# Altium integrated library Linear Technology PMIC-Switching Reg LT1074-LT8705.IntLib: 2252 symbols (part 69 of 124)
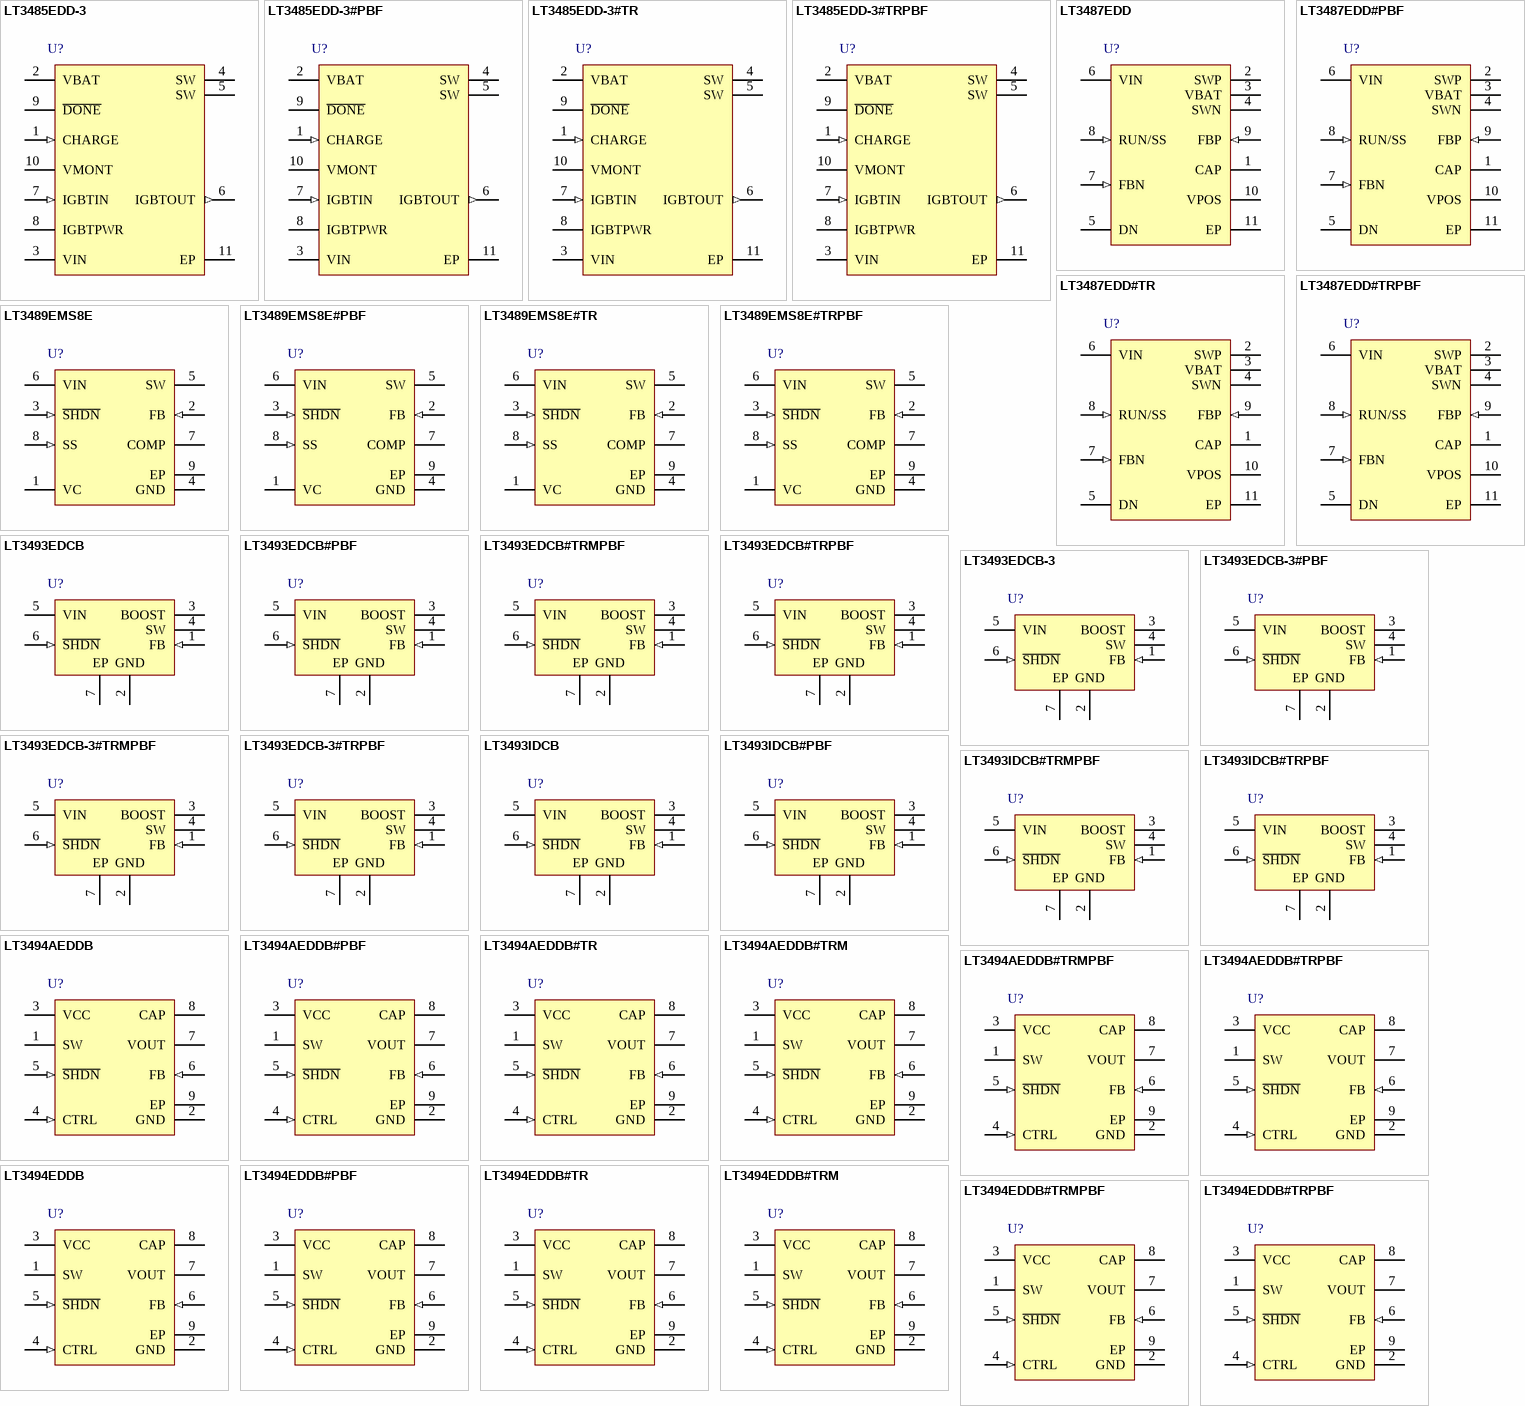
[diagram p139: symbols LT3485EDD-3 to LT3494EDDB#TRPBF]

## LT3487EDD#TRPBF
designator U?
Boost and Inverting Switching Regulator for CCD Bias, 10-pin SON (DD-10), -40 to 85 degC, Pb-Free, Tape and Reel; Manufacturer: Linear Technology; PartNumber: LT3487EDD#TRPBF; Number of Outputs: 2; PackageReference: DD-10; PackageDescription: 10-Pin Plastic DFN, Body 3 x 3 mm, Pitch 0.5 mm; Supplier 1: Digi-Key; Supplier Part Number 1: LT3487EDD#TRPBF-ND; RoHS: TRUE
footprint LT-DD-10_V (SON, 10-Leads, Body 3x3mm, Pitch 0.5mm, Thermal Pad 2.38x1.65mm)
pins: 1 CAP "Disconnect-PNP Emitter and Positive Schottky Cathode. Acts as an intermediate positive (boost) output. Connect boost output capacitor to this pin.", 2 SWP "Switch Pin and Schottky Anode for Positive Channel. Connect boost inductor to this pin.", 3 VBAT (power) "Battery Voltage. Connect this pin to the supply voltage for the boost inductor. The disconnect drive current is returned to this pin. The disconnect operates until CAP falls to 1.2V above VBAT.", 4 SWN "Switch Pin for Negative (Inverter) Channel. Connect inverter input inductor and flying capacitor here.", 5 DN "Anode of Internal Schottky for Inverter. Connect inverter output inductor and flying capacitor here.", 6 VIN (power) "Input Supply Pin. VIN is used to power the control circuitry of the LT3487. This pin must be locally bypassed with an X5R or X7R type ceramic capacitor", 7 FBN (in) "Feedback Pin for Inverter. Connect feedback resistor R2 from this pin to VNEG.", 8 RUN/SS (in) "Run/Soft-Start Pin. Connect to an opendrain transistor. The transistor must sink 1.4uA from RUN/SS. Pull RUN/SS below 100mV to shut down the chip. Connect a capacitor from RUN/SS to ground to program soft-start functionality.(See Datasheet)", 9 FBP (in) "Feedback Pin for Boost. Connect boost feedback resistor R1 from FBP to CAP.", 10 VPOS (power) "Output Pin for Boost Channel. VPOS is the collector of the output disconnect PNP. Connect the boost load to VPOS. Connect capacitor C5 between CAP and VPOS for stability.", 11 EP (power) "GND. Tie directly to ground plane through multiple vias under the package for optimum thermal performance."

## LT3489EMS8E
designator U?
2 MHz Boost DC/DC Converter with 2.5 A Switch and Soft-Start, 8-pin SOP (MS8E-8), -40 to 85 degC; Manufacturer: Linear Technology; PartNumber: LT3489EMS8E; Number of Outputs: 1; PackageReference: MS8E-8; PackageDescription: 8-Pin Plastic MSOP, Exposed Die Pad, Body 3 x 3 mm, Pitch 0.65 mm; RoHS: FALSE
footprint LT-MS8E-8-2060X1830TP_N (SOP, 8-Leads, Body 3.1x3.1mm, Pitch 0.65mm, Thermal Pad 2.162x1.932mm, IPC Medium Density)
footprint LT-MS8E-8-2060X1830TP_L (SOP, 8-Leads, Body 3.1x3.1mm, Pitch 0.65mm, Thermal Pad 2.162x1.932mm, IPC High Density)
footprint LT-MS8E-8-2060X1830TP_M (SOP, 8-Leads, Body 3.1x3.1mm, Pitch 0.65mm, Thermal Pad 2.162x1.932mm, IPC Low Density)
pins: 1 VC "Error Amplifer Output Pin. Tie external compensation network to this pin, or use the internal compensation  network by shorting the VC pin to the COMP pin.", 2 FB (in) "Feedback Pin.", 3 ~{SHDN} (in) "Shutdown Pin. Ground to shut down. Do not foat this pin.", 4 GND (power) "Ground. Tie directly to local ground plane.", 5 SW (power) "Switch Pin. This is the collector of the internal  NPN power switch. Minimize the metal trace area connected  to this pin to minimize EMI.", 6 VIN (power) "Input Supply Pin. Must be locally bypassed.", 7 COMP "Internal Compensation Pin. Provides an internal compensation network. Tie directly to the VC pin for internal compensation. Tie to GND if not in use.", 8 SS (in) "Soft-Start Pin. Place a soft-start capacitor here.", 9 EP (power) "Ground."

## LT3489EMS8E#PBF
designator U?
2 MHz Boost DC/DC Converter with 2.5 A Switch and Soft-Start, 8-pin SOP (MS8E-8), -40 to 85 degC, Pb-Free; Manufacturer: Linear Technology; PartNumber: LT3489EMS8E#PBF; Number of Outputs: 1; PackageReference: MS8E-8; PackageDescription: 8-Pin Plastic MSOP, Exposed Die Pad, Body 3 x 3 mm, Pitch 0.65 mm; Supplier 1: Digi-Key; Supplier Part Number 1: LT3489EMS8E#PBF-ND; RoHS: TRUE
footprint LT-MS8E-8-2060X1830TP_N (SOP, 8-Leads, Body 3.1x3.1mm, Pitch 0.65mm, Thermal Pad 2.162x1.932mm, IPC Medium Density)
footprint LT-MS8E-8-2060X1830TP_L (SOP, 8-Leads, Body 3.1x3.1mm, Pitch 0.65mm, Thermal Pad 2.162x1.932mm, IPC High Density)
footprint LT-MS8E-8-2060X1830TP_M (SOP, 8-Leads, Body 3.1x3.1mm, Pitch 0.65mm, Thermal Pad 2.162x1.932mm, IPC Low Density)
pins: 1 VC "Error Amplifer Output Pin. Tie external compensation network to this pin, or use the internal compensation  network by shorting the VC pin to the COMP pin.", 2 FB (in) "Feedback Pin.", 3 ~{SHDN} (in) "Shutdown Pin. Ground to shut down. Do not foat this pin.", 4 GND (power) "Ground. Tie directly to local ground plane.", 5 SW (power) "Switch Pin. This is the collector of the internal  NPN power switch. Minimize the metal trace area connected  to this pin to minimize EMI.", 6 VIN (power) "Input Supply Pin. Must be locally bypassed.", 7 COMP "Internal Compensation Pin. Provides an internal compensation network. Tie directly to the VC pin for internal compensation. Tie to GND if not in use.", 8 SS (in) "Soft-Start Pin. Place a soft-start capacitor here.", 9 EP (power) "Ground."

## LT3489EMS8E#TR
designator U?
2 MHz Boost DC/DC Converter with 2.5 A Switch and Soft-Start, 8-pin SOP (MS8E-8), -40 to 85 degC, Tape and Reel; Manufacturer: Linear Technology; PartNumber: LT3489EMS8E#TR; Number of Outputs: 1; PackageReference: MS8E-8; PackageDescription: 8-Pin Plastic MSOP, Exposed Die Pad, Body 3 x 3 mm, Pitch 0.65 mm; RoHS: FALSE
footprint LT-MS8E-8-2060X1830TP_N (SOP, 8-Leads, Body 3.1x3.1mm, Pitch 0.65mm, Thermal Pad 2.162x1.932mm, IPC Medium Density)
footprint LT-MS8E-8-2060X1830TP_L (SOP, 8-Leads, Body 3.1x3.1mm, Pitch 0.65mm, Thermal Pad 2.162x1.932mm, IPC High Density)
footprint LT-MS8E-8-2060X1830TP_M (SOP, 8-Leads, Body 3.1x3.1mm, Pitch 0.65mm, Thermal Pad 2.162x1.932mm, IPC Low Density)
pins: 1 VC "Error Amplifer Output Pin. Tie external compensation network to this pin, or use the internal compensation  network by shorting the VC pin to the COMP pin.", 2 FB (in) "Feedback Pin.", 3 ~{SHDN} (in) "Shutdown Pin. Ground to shut down. Do not foat this pin.", 4 GND (power) "Ground. Tie directly to local ground plane.", 5 SW (power) "Switch Pin. This is the collector of the internal  NPN power switch. Minimize the metal trace area connected  to this pin to minimize EMI.", 6 VIN (power) "Input Supply Pin. Must be locally bypassed.", 7 COMP "Internal Compensation Pin. Provides an internal compensation network. Tie directly to the VC pin for internal compensation. Tie to GND if not in use.", 8 SS (in) "Soft-Start Pin. Place a soft-start capacitor here.", 9 EP (power) "Ground."

## LT3489EMS8E#TRPBF
designator U?
2 MHz Boost DC/DC Converter with 2.5 A Switch and Soft-Start, 8-pin SOP (MS8E-8), -40 to 85 degC, Pb-Free, Tape and Reel; Manufacturer: Linear Technology; PartNumber: LT3489EMS8E#TRPBF; Number of Outputs: 1; PackageReference: MS8E-8; PackageDescription: 8-Pin Plastic MSOP, Exposed Die Pad, Body 3 x 3 mm, Pitch 0.65 mm; Supplier 1: Digi-Key; Supplier Part Number 1: LT3489EMS8E#TRPBF-ND; RoHS: TRUE
footprint LT-MS8E-8-2060X1830TP_N (SOP, 8-Leads, Body 3.1x3.1mm, Pitch 0.65mm, Thermal Pad 2.162x1.932mm, IPC Medium Density)
footprint LT-MS8E-8-2060X1830TP_L (SOP, 8-Leads, Body 3.1x3.1mm, Pitch 0.65mm, Thermal Pad 2.162x1.932mm, IPC High Density)
footprint LT-MS8E-8-2060X1830TP_M (SOP, 8-Leads, Body 3.1x3.1mm, Pitch 0.65mm, Thermal Pad 2.162x1.932mm, IPC Low Density)
pins: 1 VC "Error Amplifer Output Pin. Tie external compensation network to this pin, or use the internal compensation  network by shorting the VC pin to the COMP pin.", 2 FB (in) "Feedback Pin.", 3 ~{SHDN} (in) "Shutdown Pin. Ground to shut down. Do not foat this pin.", 4 GND (power) "Ground. Tie directly to local ground plane.", 5 SW (power) "Switch Pin. This is the collector of the internal  NPN power switch. Minimize the metal trace area connected  to this pin to minimize EMI.", 6 VIN (power) "Input Supply Pin. Must be locally bypassed.", 7 COMP "Internal Compensation Pin. Provides an internal compensation network. Tie directly to the VC pin for internal compensation. Tie to GND if not in use.", 8 SS (in) "Soft-Start Pin. Place a soft-start capacitor here.", 9 EP (power) "Ground."

## LT3493EDCB
designator U?
1.2 A, 750 kHz Step-Down Switching Regulator, 6-pin SON (DCB-6), -40 to 85 degC; Manufacturer: Linear Technology; PartNumber: LT3493EDCB; Number of Outputs: 1; PackageReference: DCB-6; PackageDescription: 6-Pin Plastic DFN, Body 2 x 3 mm, Pitch 0.5 mm; RoHS: FALSE
footprint LT-DCB-6_V (SON, 6-Leads, Body 3x2mm, Pitch 0.5mm, Thermal Pad 1.65x1.35mm)
pins: 1 FB (in) "The LT3493-3 regulates its feedback pin to 780mV. Connect the feedback resistor divider tap to this pin. Set the output voltage according to VOUT = 0.78V x (1 + R1/R2). A good value for R2 is 10k.", 2 GND (power) "Tie the GND pin to a local ground plane below the LT3493-3 and the circuit components. Return the feedback divider to this pin.", 3 BOOST "The BOOST pin is used to provide a drive voltage, higher than the input voltage, to the internal bipolar NPN power switch.", 4 SW (power) "The SW pin is the output of the internal power switch. Connect this pin to the inductor, catch diode and boost capacitor.", 5 VIN (power) "The VIN pin supplies current to the LT3493-3's internal regulator and to the internal power switch. This pin must be locally bypassed.", 6 ~{SHDN} (in) "The S\H\D\N\ pin is used to put the LT3493-3 in shutdown mode. Tie to ground to shut down the LT3493-3. Tie to 2.3V or more for normal operation. If the shutdown feature is not used, tie this pin to the VIN pin. S\H\D\N\ (See Datasheet)", 7 EP (power) "The Exposed Pad must be soldered to the PCB and electrically connected to ground. Use a large ground plane and thermal vias to optimize thermal performance."

## LT3493EDCB#PBF
designator U?
1.2 A, 750 kHz Step-Down Switching Regulator, 6-pin SON (DCB-6), -40 to 85 degC, Pb-Free; Manufacturer: Linear Technology; PartNumber: LT3493EDCB#PBF; Number of Outputs: 1; PackageReference: DCB-6; PackageDescription: 6-Pin Plastic DFN, Body 2 x 3 mm, Pitch 0.5 mm; Supplier 1: Farnell; Supplier Part Number 1: 1531511; RoHS: TRUE
footprint LT-DCB-6_V (SON, 6-Leads, Body 3x2mm, Pitch 0.5mm, Thermal Pad 1.65x1.35mm)
pins: 1 FB (in) "The LT3493-3 regulates its feedback pin to 780mV. Connect the feedback resistor divider tap to this pin. Set the output voltage according to VOUT = 0.78V x (1 + R1/R2). A good value for R2 is 10k.", 2 GND (power) "Tie the GND pin to a local ground plane below the LT3493-3 and the circuit components. Return the feedback divider to this pin.", 3 BOOST "The BOOST pin is used to provide a drive voltage, higher than the input voltage, to the internal bipolar NPN power switch.", 4 SW (power) "The SW pin is the output of the internal power switch. Connect this pin to the inductor, catch diode and boost capacitor.", 5 VIN (power) "The VIN pin supplies current to the LT3493-3's internal regulator and to the internal power switch. This pin must be locally bypassed.", 6 ~{SHDN} (in) "The S\H\D\N\ pin is used to put the LT3493-3 in shutdown mode. Tie to ground to shut down the LT3493-3. Tie to 2.3V or more for normal operation. If the shutdown feature is not used, tie this pin to the VIN pin. S\H\D\N\ (See Datasheet)", 7 EP (power) "The Exposed Pad must be soldered to the PCB and electrically connected to ground. Use a large ground plane and thermal vias to optimize thermal performance."

## LT3493EDCB#TRMPBF
designator U?
1.2 A, 750 kHz Step-Down Switching Regulator, 6-pin SON (DCB-6), -40 to 85 degC, Pb-Free, Mini Tape and Reel; Manufacturer: Linear Technology; PartNumber: LT3493EDCB#TRMPBF; Number of Outputs: 1; PackageReference: DCB-6; PackageDescription: 6-Pin Plastic DFN, Body 2 x 3 mm, Pitch 0.5 mm; Supplier 1: Digi-Key; Supplier Part Number 1: LT3493EDCB#TRMPBFTR-ND; RoHS: TRUE
footprint LT-DCB-6_V (SON, 6-Leads, Body 3x2mm, Pitch 0.5mm, Thermal Pad 1.65x1.35mm)
pins: 1 FB (in) "The LT3493-3 regulates its feedback pin to 780mV. Connect the feedback resistor divider tap to this pin. Set the output voltage according to VOUT = 0.78V x (1 + R1/R2). A good value for R2 is 10k.", 2 GND (power) "Tie the GND pin to a local ground plane below the LT3493-3 and the circuit components. Return the feedback divider to this pin.", 3 BOOST "The BOOST pin is used to provide a drive voltage, higher than the input voltage, to the internal bipolar NPN power switch.", 4 SW (power) "The SW pin is the output of the internal power switch. Connect this pin to the inductor, catch diode and boost capacitor.", 5 VIN (power) "The VIN pin supplies current to the LT3493-3's internal regulator and to the internal power switch. This pin must be locally bypassed.", 6 ~{SHDN} (in) "The S\H\D\N\ pin is used to put the LT3493-3 in shutdown mode. Tie to ground to shut down the LT3493-3. Tie to 2.3V or more for normal operation. If the shutdown feature is not used, tie this pin to the VIN pin. S\H\D\N\ (See Datasheet)", 7 EP (power) "The Exposed Pad must be soldered to the PCB and electrically connected to ground. Use a large ground plane and thermal vias to optimize thermal performance."

## LT3493EDCB#TRPBF
designator U?
1.2 A, 750 kHz Step-Down Switching Regulator, 6-pin SON (DCB-6), -40 to 85 degC, Pb-Free, Tape and Reel; Manufacturer: Linear Technology; PartNumber: LT3493EDCB#TRPBF; Number of Outputs: 1; PackageReference: DCB-6; PackageDescription: 6-Pin Plastic DFN, Body 2 x 3 mm, Pitch 0.5 mm; Supplier 1: Digi-Key; Supplier Part Number 1: LT3493EDCB#TRPBF-ND; RoHS: TRUE
footprint LT-DCB-6_V (SON, 6-Leads, Body 3x2mm, Pitch 0.5mm, Thermal Pad 1.65x1.35mm)
pins: 1 FB (in) "The LT3493-3 regulates its feedback pin to 780mV. Connect the feedback resistor divider tap to this pin. Set the output voltage according to VOUT = 0.78V x (1 + R1/R2). A good value for R2 is 10k.", 2 GND (power) "Tie the GND pin to a local ground plane below the LT3493-3 and the circuit components. Return the feedback divider to this pin.", 3 BOOST "The BOOST pin is used to provide a drive voltage, higher than the input voltage, to the internal bipolar NPN power switch.", 4 SW (power) "The SW pin is the output of the internal power switch. Connect this pin to the inductor, catch diode and boost capacitor.", 5 VIN (power) "The VIN pin supplies current to the LT3493-3's internal regulator and to the internal power switch. This pin must be locally bypassed.", 6 ~{SHDN} (in) "The S\H\D\N\ pin is used to put the LT3493-3 in shutdown mode. Tie to ground to shut down the LT3493-3. Tie to 2.3V or more for normal operation. If the shutdown feature is not used, tie this pin to the VIN pin. S\H\D\N\ (See Datasheet)", 7 EP (power) "The Exposed Pad must be soldered to the PCB and electrically connected to ground. Use a large ground plane and thermal vias to optimize thermal performance."

## LT3493EDCB-3
designator U?
1.2 A, 750 kHz Step-Down Switching Regulator, 6-pin SON (DCB-6), -40 to 85 degC; Manufacturer: Linear Technology; PartNumber: LT3493EDCB-3; Number of Outputs: 1; PackageReference: DCB-6; PackageDescription: 6-Pin Plastic DFN, Body 2 x 3 mm, Pitch 0.5 mm; RoHS: FALSE
footprint LT-DCB-6_V (SON, 6-Leads, Body 3x2mm, Pitch 0.5mm, Thermal Pad 1.65x1.35mm)
pins: 1 FB (in) "The LT3493-3 regulates its feedback pin to 780mV. Connect the feedback resistor divider tap to this pin. Set the output voltage according to VOUT = 0.78V x (1 + R1/R2). A good value for R2 is 10k.", 2 GND (power) "Tie the GND pin to a local ground plane below the LT3493-3 and the circuit components. Return the feedback divider to this pin.", 3 BOOST "The BOOST pin is used to provide a drive voltage, higher than the input voltage, to the internal bipolar NPN power switch.", 4 SW (power) "The SW pin is the output of the internal power switch. Connect this pin to the inductor, catch diode and boost capacitor.", 5 VIN (power) "The VIN pin supplies current to the LT3493-3's internal regulator and to the internal power switch. This pin must be locally bypassed.", 6 ~{SHDN} (in) "The S\H\D\N\ pin is used to put the LT3493-3 in shutdown mode. Tie to ground to shut down the LT3493-3. Tie to 2.3V or more for normal operation. If the shutdown feature is not used, tie this pin to the VIN pin. S\H\D\N\ (See Datasheet)", 7 EP (power) "The Exposed Pad must be soldered to the PCB and electrically connected to ground. Use a large ground plane and thermal vias to optimize thermal performance."

## LT3493EDCB-3#PBF
designator U?
1.2 A, 750 kHz Step-Down Switching Regulator, 6-pin SON (DCB-6), -40 to 85 degC, Pb-Free; Manufacturer: Linear Technology; PartNumber: LT3493EDCB-3#PBF; Number of Outputs: 1; PackageReference: DCB-6; PackageDescription: 6-Pin Plastic DFN, Body 2 x 3 mm, Pitch 0.5 mm; RoHS: TRUE
footprint LT-DCB-6_V (SON, 6-Leads, Body 3x2mm, Pitch 0.5mm, Thermal Pad 1.65x1.35mm)
pins: 1 FB (in) "The LT3493-3 regulates its feedback pin to 780mV. Connect the feedback resistor divider tap to this pin. Set the output voltage according to VOUT = 0.78V x (1 + R1/R2). A good value for R2 is 10k.", 2 GND (power) "Tie the GND pin to a local ground plane below the LT3493-3 and the circuit components. Return the feedback divider to this pin.", 3 BOOST "The BOOST pin is used to provide a drive voltage, higher than the input voltage, to the internal bipolar NPN power switch.", 4 SW (power) "The SW pin is the output of the internal power switch. Connect this pin to the inductor, catch diode and boost capacitor.", 5 VIN (power) "The VIN pin supplies current to the LT3493-3's internal regulator and to the internal power switch. This pin must be locally bypassed.", 6 ~{SHDN} (in) "The S\H\D\N\ pin is used to put the LT3493-3 in shutdown mode. Tie to ground to shut down the LT3493-3. Tie to 2.3V or more for normal operation. If the shutdown feature is not used, tie this pin to the VIN pin. S\H\D\N\ (See Datasheet)", 7 EP (power) "The Exposed Pad must be soldered to the PCB and electrically connected to ground. Use a large ground plane and thermal vias to optimize thermal performance."

## LT3493EDCB-3#TRMPBF
designator U?
1.2 A, 750 kHz Step-Down Switching Regulator, 6-pin SON (DCB-6), -40 to 85 degC, Pb-Free, Mini Tape and Reel; Manufacturer: Linear Technology; PartNumber: LT3493EDCB-3#TRMPBF; Number of Outputs: 1; PackageReference: DCB-6; PackageDescription: 6-Pin Plastic DFN, Body 2 x 3 mm, Pitch 0.5 mm; Supplier 1: Digi-Key; Supplier Part Number 1: LT3493EDCB-3#TRMPBF-ND; RoHS: TRUE
footprint LT-DCB-6_V (SON, 6-Leads, Body 3x2mm, Pitch 0.5mm, Thermal Pad 1.65x1.35mm)
pins: 1 FB (in) "The LT3493-3 regulates its feedback pin to 780mV. Connect the feedback resistor divider tap to this pin. Set the output voltage according to VOUT = 0.78V x (1 + R1/R2). A good value for R2 is 10k.", 2 GND (power) "Tie the GND pin to a local ground plane below the LT3493-3 and the circuit components. Return the feedback divider to this pin.", 3 BOOST "The BOOST pin is used to provide a drive voltage, higher than the input voltage, to the internal bipolar NPN power switch.", 4 SW (power) "The SW pin is the output of the internal power switch. Connect this pin to the inductor, catch diode and boost capacitor.", 5 VIN (power) "The VIN pin supplies current to the LT3493-3's internal regulator and to the internal power switch. This pin must be locally bypassed.", 6 ~{SHDN} (in) "The S\H\D\N\ pin is used to put the LT3493-3 in shutdown mode. Tie to ground to shut down the LT3493-3. Tie to 2.3V or more for normal operation. If the shutdown feature is not used, tie this pin to the VIN pin. S\H\D\N\ (See Datasheet)", 7 EP (power) "The Exposed Pad must be soldered to the PCB and electrically connected to ground. Use a large ground plane and thermal vias to optimize thermal performance."

## LT3493EDCB-3#TRPBF
designator U?
1.2 A, 750 kHz Step-Down Switching Regulator, 6-pin SON (DCB-6), -40 to 85 degC, Pb-Free, Tape and Reel; Manufacturer: Linear Technology; PartNumber: LT3493EDCB-3#TRPBF; Number of Outputs: 1; PackageReference: DCB-6; PackageDescription: 6-Pin Plastic DFN, Body 2 x 3 mm, Pitch 0.5 mm; Supplier 1: Digi-Key; Supplier Part Number 1: LT3493EDCB-3#TRPBF-ND; RoHS: TRUE
footprint LT-DCB-6_V (SON, 6-Leads, Body 3x2mm, Pitch 0.5mm, Thermal Pad 1.65x1.35mm)
pins: 1 FB (in) "The LT3493-3 regulates its feedback pin to 780mV. Connect the feedback resistor divider tap to this pin. Set the output voltage according to VOUT = 0.78V x (1 + R1/R2). A good value for R2 is 10k.", 2 GND (power) "Tie the GND pin to a local ground plane below the LT3493-3 and the circuit components. Return the feedback divider to this pin.", 3 BOOST "The BOOST pin is used to provide a drive voltage, higher than the input voltage, to the internal bipolar NPN power switch.", 4 SW (power) "The SW pin is the output of the internal power switch. Connect this pin to the inductor, catch diode and boost capacitor.", 5 VIN (power) "The VIN pin supplies current to the LT3493-3's internal regulator and to the internal power switch. This pin must be locally bypassed.", 6 ~{SHDN} (in) "The S\H\D\N\ pin is used to put the LT3493-3 in shutdown mode. Tie to ground to shut down the LT3493-3. Tie to 2.3V or more for normal operation. If the shutdown feature is not used, tie this pin to the VIN pin. S\H\D\N\ (See Datasheet)", 7 EP (power) "The Exposed Pad must be soldered to the PCB and electrically connected to ground. Use a large ground plane and thermal vias to optimize thermal performance."

## LT3493IDCB
designator U?
1.2 A, 750 kHz Step-Down Switching Regulator, 6-pin SON (DCB-6), -40 to 125 degC; Manufacturer: Linear Technology; PartNumber: LT3493IDCB; Number of Outputs: 1; PackageReference: DCB-6; PackageDescription: 6-Pin Plastic DFN, Body 2 x 3 mm, Pitch 0.5 mm; Supplier 1: Newark; Supplier Part Number 1: 24W8908; RoHS: FALSE
footprint LT-DCB-6_V (SON, 6-Leads, Body 3x2mm, Pitch 0.5mm, Thermal Pad 1.65x1.35mm)
pins: 1 FB (in) "The LT3493-3 regulates its feedback pin to 780mV. Connect the feedback resistor divider tap to this pin. Set the output voltage according to VOUT = 0.78V x (1 + R1/R2). A good value for R2 is 10k.", 2 GND (power) "Tie the GND pin to a local ground plane below the LT3493-3 and the circuit components. Return the feedback divider to this pin.", 3 BOOST "The BOOST pin is used to provide a drive voltage, higher than the input voltage, to the internal bipolar NPN power switch.", 4 SW (power) "The SW pin is the output of the internal power switch. Connect this pin to the inductor, catch diode and boost capacitor.", 5 VIN (power) "The VIN pin supplies current to the LT3493-3's internal regulator and to the internal power switch. This pin must be locally bypassed.", 6 ~{SHDN} (in) "The S\H\D\N\ pin is used to put the LT3493-3 in shutdown mode. Tie to ground to shut down the LT3493-3. Tie to 2.3V or more for normal operation. If the shutdown feature is not used, tie this pin to the VIN pin. S\H\D\N\ (See Datasheet)", 7 EP (power) "The Exposed Pad must be soldered to the PCB and electrically connected to ground. Use a large ground plane and thermal vias to optimize thermal performance."

## LT3493IDCB#PBF
designator U?
1.2 A, 750 kHz Step-Down Switching Regulator, 6-pin SON (DCB-6), -40 to 125 degC, Pb-Free; Manufacturer: Linear Technology; PartNumber: LT3493IDCB#PBF; Number of Outputs: 1; PackageReference: DCB-6; PackageDescription: 6-Pin Plastic DFN, Body 2 x 3 mm, Pitch 0.5 mm; Supplier 1: Farnell; Supplier Part Number 1: 2294918; RoHS: TRUE
footprint LT-DCB-6_V (SON, 6-Leads, Body 3x2mm, Pitch 0.5mm, Thermal Pad 1.65x1.35mm)
pins: 1 FB (in) "The LT3493-3 regulates its feedback pin to 780mV. Connect the feedback resistor divider tap to this pin. Set the output voltage according to VOUT = 0.78V x (1 + R1/R2). A good value for R2 is 10k.", 2 GND (power) "Tie the GND pin to a local ground plane below the LT3493-3 and the circuit components. Return the feedback divider to this pin.", 3 BOOST "The BOOST pin is used to provide a drive voltage, higher than the input voltage, to the internal bipolar NPN power switch.", 4 SW (power) "The SW pin is the output of the internal power switch. Connect this pin to the inductor, catch diode and boost capacitor.", 5 VIN (power) "The VIN pin supplies current to the LT3493-3's internal regulator and to the internal power switch. This pin must be locally bypassed.", 6 ~{SHDN} (in) "The S\H\D\N\ pin is used to put the LT3493-3 in shutdown mode. Tie to ground to shut down the LT3493-3. Tie to 2.3V or more for normal operation. If the shutdown feature is not used, tie this pin to the VIN pin. S\H\D\N\ (See Datasheet)", 7 EP (power) "The Exposed Pad must be soldered to the PCB and electrically connected to ground. Use a large ground plane and thermal vias to optimize thermal performance."

## LT3493IDCB#TRMPBF
designator U?
1.2 A, 750 kHz Step-Down Switching Regulator, 6-pin SON (DCB-6), -40 to 125 degC, Pb-Free, Mini Tape and Reel; Manufacturer: Linear Technology; PartNumber: LT3493IDCB#TRMPBF; Number of Outputs: 1; PackageReference: DCB-6; PackageDescription: 6-Pin Plastic DFN, Body 2 x 3 mm, Pitch 0.5 mm; Supplier 1: Digi-Key; Supplier Part Number 1: LT3493IDCB#TRMPBF-ND; RoHS: TRUE
footprint LT-DCB-6_V (SON, 6-Leads, Body 3x2mm, Pitch 0.5mm, Thermal Pad 1.65x1.35mm)
pins: 1 FB (in) "The LT3493-3 regulates its feedback pin to 780mV. Connect the feedback resistor divider tap to this pin. Set the output voltage according to VOUT = 0.78V x (1 + R1/R2). A good value for R2 is 10k.", 2 GND (power) "Tie the GND pin to a local ground plane below the LT3493-3 and the circuit components. Return the feedback divider to this pin.", 3 BOOST "The BOOST pin is used to provide a drive voltage, higher than the input voltage, to the internal bipolar NPN power switch.", 4 SW (power) "The SW pin is the output of the internal power switch. Connect this pin to the inductor, catch diode and boost capacitor.", 5 VIN (power) "The VIN pin supplies current to the LT3493-3's internal regulator and to the internal power switch. This pin must be locally bypassed.", 6 ~{SHDN} (in) "The S\H\D\N\ pin is used to put the LT3493-3 in shutdown mode. Tie to ground to shut down the LT3493-3. Tie to 2.3V or more for normal operation. If the shutdown feature is not used, tie this pin to the VIN pin. S\H\D\N\ (See Datasheet)", 7 EP (power) "The Exposed Pad must be soldered to the PCB and electrically connected to ground. Use a large ground plane and thermal vias to optimize thermal performance."

## LT3493IDCB#TRPBF
designator U?
1.2 A, 750 kHz Step-Down Switching Regulator, 6-pin SON (DCB-6), -40 to 125 degC, Pb-Free, Tape and Reel; Manufacturer: Linear Technology; PartNumber: LT3493IDCB#TRPBF; Number of Outputs: 1; PackageReference: DCB-6; PackageDescription: 6-Pin Plastic DFN, Body 2 x 3 mm, Pitch 0.5 mm; Supplier 1: Digi-Key; Supplier Part Number 1: LT3493IDCB#TRPBF-ND; RoHS: TRUE
footprint LT-DCB-6_V (SON, 6-Leads, Body 3x2mm, Pitch 0.5mm, Thermal Pad 1.65x1.35mm)
pins: 1 FB (in) "The LT3493-3 regulates its feedback pin to 780mV. Connect the feedback resistor divider tap to this pin. Set the output voltage according to VOUT = 0.78V x (1 + R1/R2). A good value for R2 is 10k.", 2 GND (power) "Tie the GND pin to a local ground plane below the LT3493-3 and the circuit components. Return the feedback divider to this pin.", 3 BOOST "The BOOST pin is used to provide a drive voltage, higher than the input voltage, to the internal bipolar NPN power switch.", 4 SW (power) "The SW pin is the output of the internal power switch. Connect this pin to the inductor, catch diode and boost capacitor.", 5 VIN (power) "The VIN pin supplies current to the LT3493-3's internal regulator and to the internal power switch. This pin must be locally bypassed.", 6 ~{SHDN} (in) "The S\H\D\N\ pin is used to put the LT3493-3 in shutdown mode. Tie to ground to shut down the LT3493-3. Tie to 2.3V or more for normal operation. If the shutdown feature is not used, tie this pin to the VIN pin. S\H\D\N\ (See Datasheet)", 7 EP (power) "The Exposed Pad must be soldered to the PCB and electrically connected to ground. Use a large ground plane and thermal vias to optimize thermal performance."

## LT3494AEDDB
designator U?
Micropower Low Noise Boost Converter with Output Disconnect, 8-pin SON (DDB-8), -40 to 85 degC; Manufacturer: Linear Technology; PartNumber: LT3494AEDDB; Number of Outputs: 1; PackageReference: DDB-8; PackageDescription: 8-Pin Plastic DFN, Body 3 x 2 mm, Pitch 0.5 mm; RoHS: FALSE
footprint LT-DDB-8_V (SON, 8-Leads, Body 3x2mm, Pitch 0.5mm, Thermal Pad 2.2x0.61mm)
pins: 1 SW "Switch Pin. This is the collector of the internal NPN power switch. Minimize the metal trace area connected to this pin to minimize EMI.", 2 GND (power) "Ground. Tie directly to local ground plane.", 3 VCC (power) "Input Supply Pin. Must be locally bypassed.", 4 CTRL (in) "Dimming Pin. If not used, tie CTRL to 1.5V or higher. If in use, drive CTRL below 1.225V to override the internal reference. See Applications Information for more information.", 5 ~{SHDN} (in) "Shutdown Pin. Tie to 1.5V or more to enable device. Ground to shut down.", 6 FB (in) "Feedback Pin. Reference voltage is 1.225V. There is an internal 182k resistor from the FB pin to GND. To achieve the desired output voltage, choose R1 according to the following formula: R1=182 x (VOUT(MAX)/1.225-1) kohm", 7 VOUT (power) "Drain of Output Disconnect PMOS. Place a bypass capacitor from this pin to GND. See Applications Information.", 8 CAP "This is the cathode of the internal Schottky diode. Place a bypass capacitor from this pin to GND.", 9 EP (power) "Ground. This pin must be soldered to PCB."

## LT3494AEDDB#PBF
designator U?
Micropower Low Noise Boost Converter with Output Disconnect, 8-pin SON (DDB-8), -40 to 85 degC, Pb-Free; Manufacturer: Linear Technology; PartNumber: LT3494AEDDB#PBF; Number of Outputs: 1; PackageReference: DDB-8; PackageDescription: 8-Pin Plastic DFN, Body 3 x 2 mm, Pitch 0.5 mm; Supplier 1: Farnell; Supplier Part Number 1: 2294919; RoHS: TRUE
footprint LT-DDB-8_V (SON, 8-Leads, Body 3x2mm, Pitch 0.5mm, Thermal Pad 2.2x0.61mm)
pins: 1 SW "Switch Pin. This is the collector of the internal NPN power switch. Minimize the metal trace area connected to this pin to minimize EMI.", 2 GND (power) "Ground. Tie directly to local ground plane.", 3 VCC (power) "Input Supply Pin. Must be locally bypassed.", 4 CTRL (in) "Dimming Pin. If not used, tie CTRL to 1.5V or higher. If in use, drive CTRL below 1.225V to override the internal reference. See Applications Information for more information.", 5 ~{SHDN} (in) "Shutdown Pin. Tie to 1.5V or more to enable device. Ground to shut down.", 6 FB (in) "Feedback Pin. Reference voltage is 1.225V. There is an internal 182k resistor from the FB pin to GND. To achieve the desired output voltage, choose R1 according to the following formula: R1=182 x (VOUT(MAX)/1.225-1) kohm", 7 VOUT (power) "Drain of Output Disconnect PMOS. Place a bypass capacitor from this pin to GND. See Applications Information.", 8 CAP "This is the cathode of the internal Schottky diode. Place a bypass capacitor from this pin to GND.", 9 EP (power) "Ground. This pin must be soldered to PCB."

## LT3494AEDDB#TR
designator U?
Micropower Low Noise Boost Converter with Output Disconnect, 8-pin SON (DDB-8), -40 to 85 degC, Tape and Reel; Manufacturer: Linear Technology; PartNumber: LT3494AEDDB#TR; Number of Outputs: 1; PackageReference: DDB-8; PackageDescription: 8-Pin Plastic DFN, Body 3 x 2 mm, Pitch 0.5 mm; RoHS: FALSE
footprint LT-DDB-8_V (SON, 8-Leads, Body 3x2mm, Pitch 0.5mm, Thermal Pad 2.2x0.61mm)
pins: 1 SW "Switch Pin. This is the collector of the internal NPN power switch. Minimize the metal trace area connected to this pin to minimize EMI.", 2 GND (power) "Ground. Tie directly to local ground plane.", 3 VCC (power) "Input Supply Pin. Must be locally bypassed.", 4 CTRL (in) "Dimming Pin. If not used, tie CTRL to 1.5V or higher. If in use, drive CTRL below 1.225V to override the internal reference. See Applications Information for more information.", 5 ~{SHDN} (in) "Shutdown Pin. Tie to 1.5V or more to enable device. Ground to shut down.", 6 FB (in) "Feedback Pin. Reference voltage is 1.225V. There is an internal 182k resistor from the FB pin to GND. To achieve the desired output voltage, choose R1 according to the following formula: R1=182 x (VOUT(MAX)/1.225-1) kohm", 7 VOUT (power) "Drain of Output Disconnect PMOS. Place a bypass capacitor from this pin to GND. See Applications Information.", 8 CAP "This is the cathode of the internal Schottky diode. Place a bypass capacitor from this pin to GND.", 9 EP (power) "Ground. This pin must be soldered to PCB."

## LT3494AEDDB#TRM
designator U?
Micropower Low Noise Boost Converter with Output Disconnect, 8-pin SON (DDB-8), -40 to 85 degC, Mini Tape and Reel; Manufacturer: Linear Technology; PartNumber: LT3494AEDDB#TRM; Number of Outputs: 1; PackageReference: DDB-8; PackageDescription: 8-Pin Plastic DFN, Body 3 x 2 mm, Pitch 0.5 mm; RoHS: FALSE
footprint LT-DDB-8_V (SON, 8-Leads, Body 3x2mm, Pitch 0.5mm, Thermal Pad 2.2x0.61mm)
pins: 1 SW "Switch Pin. This is the collector of the internal NPN power switch. Minimize the metal trace area connected to this pin to minimize EMI.", 2 GND (power) "Ground. Tie directly to local ground plane.", 3 VCC (power) "Input Supply Pin. Must be locally bypassed.", 4 CTRL (in) "Dimming Pin. If not used, tie CTRL to 1.5V or higher. If in use, drive CTRL below 1.225V to override the internal reference. See Applications Information for more information.", 5 ~{SHDN} (in) "Shutdown Pin. Tie to 1.5V or more to enable device. Ground to shut down.", 6 FB (in) "Feedback Pin. Reference voltage is 1.225V. There is an internal 182k resistor from the FB pin to GND. To achieve the desired output voltage, choose R1 according to the following formula: R1=182 x (VOUT(MAX)/1.225-1) kohm", 7 VOUT (power) "Drain of Output Disconnect PMOS. Place a bypass capacitor from this pin to GND. See Applications Information.", 8 CAP "This is the cathode of the internal Schottky diode. Place a bypass capacitor from this pin to GND.", 9 EP (power) "Ground. This pin must be soldered to PCB."

## LT3494AEDDB#TRMPBF
designator U?
Micropower Low Noise Boost Converter with Output Disconnect, 8-pin SON (DDB-8), -40 to 85 degC, Pb-Free, Mini Tape and Reel; Manufacturer: Linear Technology; PartNumber: LT3494AEDDB#TRMPBF; Number of Outputs: 1; PackageReference: DDB-8; PackageDescription: 8-Pin Plastic DFN, Body 3 x 2 mm, Pitch 0.5 mm; Supplier 1: Digi-Key; Supplier Part Number 1: LT3494AEDDB#TRMPBFTR-ND; RoHS: TRUE
footprint LT-DDB-8_V (SON, 8-Leads, Body 3x2mm, Pitch 0.5mm, Thermal Pad 2.2x0.61mm)
pins: 1 SW "Switch Pin. This is the collector of the internal NPN power switch. Minimize the metal trace area connected to this pin to minimize EMI.", 2 GND (power) "Ground. Tie directly to local ground plane.", 3 VCC (power) "Input Supply Pin. Must be locally bypassed.", 4 CTRL (in) "Dimming Pin. If not used, tie CTRL to 1.5V or higher. If in use, drive CTRL below 1.225V to override the internal reference. See Applications Information for more information.", 5 ~{SHDN} (in) "Shutdown Pin. Tie to 1.5V or more to enable device. Ground to shut down.", 6 FB (in) "Feedback Pin. Reference voltage is 1.225V. There is an internal 182k resistor from the FB pin to GND. To achieve the desired output voltage, choose R1 according to the following formula: R1=182 x (VOUT(MAX)/1.225-1) kohm", 7 VOUT (power) "Drain of Output Disconnect PMOS. Place a bypass capacitor from this pin to GND. See Applications Information.", 8 CAP "This is the cathode of the internal Schottky diode. Place a bypass capacitor from this pin to GND.", 9 EP (power) "Ground. This pin must be soldered to PCB."

## LT3494AEDDB#TRPBF
designator U?
Micropower Low Noise Boost Converter with Output Disconnect, 8-pin SON (DDB-8), -40 to 85 degC, Pb-Free, Tape and Reel; Manufacturer: Linear Technology; PartNumber: LT3494AEDDB#TRPBF; Number of Outputs: 1; PackageReference: DDB-8; PackageDescription: 8-Pin Plastic DFN, Body 3 x 2 mm, Pitch 0.5 mm; Supplier 1: Digi-Key; Supplier Part Number 1: LT3494AEDDB#TRPBF-ND; RoHS: TRUE
footprint LT-DDB-8_V (SON, 8-Leads, Body 3x2mm, Pitch 0.5mm, Thermal Pad 2.2x0.61mm)
pins: 1 SW "Switch Pin. This is the collector of the internal NPN power switch. Minimize the metal trace area connected to this pin to minimize EMI.", 2 GND (power) "Ground. Tie directly to local ground plane.", 3 VCC (power) "Input Supply Pin. Must be locally bypassed.", 4 CTRL (in) "Dimming Pin. If not used, tie CTRL to 1.5V or higher. If in use, drive CTRL below 1.225V to override the internal reference. See Applications Information for more information.", 5 ~{SHDN} (in) "Shutdown Pin. Tie to 1.5V or more to enable device. Ground to shut down.", 6 FB (in) "Feedback Pin. Reference voltage is 1.225V. There is an internal 182k resistor from the FB pin to GND. To achieve the desired output voltage, choose R1 according to the following formula: R1=182 x (VOUT(MAX)/1.225-1) kohm", 7 VOUT (power) "Drain of Output Disconnect PMOS. Place a bypass capacitor from this pin to GND. See Applications Information.", 8 CAP "This is the cathode of the internal Schottky diode. Place a bypass capacitor from this pin to GND.", 9 EP (power) "Ground. This pin must be soldered to PCB."

## LT3494EDDB
designator U?
Micropower Low Noise Boost Converter with Output Disconnect, 8-pin SON (DDB-8), -40 to 85 degC; Manufacturer: Linear Technology; PartNumber: LT3494EDDB; Number of Outputs: 1; PackageReference: DDB-8; PackageDescription: 8-Pin Plastic DFN, Body 3 x 2 mm, Pitch 0.5 mm; RoHS: FALSE
footprint LT-DDB-8_V (SON, 8-Leads, Body 3x2mm, Pitch 0.5mm, Thermal Pad 2.2x0.61mm)
pins: 1 SW "Switch Pin. This is the collector of the internal NPN power switch. Minimize the metal trace area connected to this pin to minimize EMI.", 2 GND (power) "Ground. Tie directly to local ground plane.", 3 VCC (power) "Input Supply Pin. Must be locally bypassed.", 4 CTRL (in) "Dimming Pin. If not used, tie CTRL to 1.5V or higher. If in use, drive CTRL below 1.225V to override the internal reference. See Applications Information for more information.", 5 ~{SHDN} (in) "Shutdown Pin. Tie to 1.5V or more to enable device. Ground to shut down.", 6 FB (in) "Feedback Pin. Reference voltage is 1.225V. There is an internal 182k resistor from the FB pin to GND. To achieve the desired output voltage, choose R1 according to the following formula: R1=182 x (VOUT(MAX)/1.225-1) kohm", 7 VOUT (power) "Drain of Output Disconnect PMOS. Place a bypass capacitor from this pin to GND. See Applications Information.", 8 CAP "This is the cathode of the internal Schottky diode. Place a bypass capacitor from this pin to GND.", 9 EP (power) "Ground. This pin must be soldered to PCB."

## LT3494EDDB#PBF
designator U?
Micropower Low Noise Boost Converter with Output Disconnect, 8-pin SON (DDB-8), -40 to 85 degC, Pb-Free; Manufacturer: Linear Technology; PartNumber: LT3494EDDB#PBF; Number of Outputs: 1; PackageReference: DDB-8; PackageDescription: 8-Pin Plastic DFN, Body 3 x 2 mm, Pitch 0.5 mm; Supplier 1: Farnell; Supplier Part Number 1: 2308208; RoHS: TRUE
footprint LT-DDB-8_V (SON, 8-Leads, Body 3x2mm, Pitch 0.5mm, Thermal Pad 2.2x0.61mm)
pins: 1 SW "Switch Pin. This is the collector of the internal NPN power switch. Minimize the metal trace area connected to this pin to minimize EMI.", 2 GND (power) "Ground. Tie directly to local ground plane.", 3 VCC (power) "Input Supply Pin. Must be locally bypassed.", 4 CTRL (in) "Dimming Pin. If not used, tie CTRL to 1.5V or higher. If in use, drive CTRL below 1.225V to override the internal reference. See Applications Information for more information.", 5 ~{SHDN} (in) "Shutdown Pin. Tie to 1.5V or more to enable device. Ground to shut down.", 6 FB (in) "Feedback Pin. Reference voltage is 1.225V. There is an internal 182k resistor from the FB pin to GND. To achieve the desired output voltage, choose R1 according to the following formula: R1=182 x (VOUT(MAX)/1.225-1) kohm", 7 VOUT (power) "Drain of Output Disconnect PMOS. Place a bypass capacitor from this pin to GND. See Applications Information.", 8 CAP "This is the cathode of the internal Schottky diode. Place a bypass capacitor from this pin to GND.", 9 EP (power) "Ground. This pin must be soldered to PCB."

## LT3494EDDB#TR
designator U?
Micropower Low Noise Boost Converter with Output Disconnect, 8-pin SON (DDB-8), -40 to 85 degC, Tape and Reel; Manufacturer: Linear Technology; PartNumber: LT3494EDDB#TR; Number of Outputs: 1; PackageReference: DDB-8; PackageDescription: 8-Pin Plastic DFN, Body 3 x 2 mm, Pitch 0.5 mm; RoHS: FALSE
footprint LT-DDB-8_V (SON, 8-Leads, Body 3x2mm, Pitch 0.5mm, Thermal Pad 2.2x0.61mm)
pins: 1 SW "Switch Pin. This is the collector of the internal NPN power switch. Minimize the metal trace area connected to this pin to minimize EMI.", 2 GND (power) "Ground. Tie directly to local ground plane.", 3 VCC (power) "Input Supply Pin. Must be locally bypassed.", 4 CTRL (in) "Dimming Pin. If not used, tie CTRL to 1.5V or higher. If in use, drive CTRL below 1.225V to override the internal reference. See Applications Information for more information.", 5 ~{SHDN} (in) "Shutdown Pin. Tie to 1.5V or more to enable device. Ground to shut down.", 6 FB (in) "Feedback Pin. Reference voltage is 1.225V. There is an internal 182k resistor from the FB pin to GND. To achieve the desired output voltage, choose R1 according to the following formula: R1=182 x (VOUT(MAX)/1.225-1) kohm", 7 VOUT (power) "Drain of Output Disconnect PMOS. Place a bypass capacitor from this pin to GND. See Applications Information.", 8 CAP "This is the cathode of the internal Schottky diode. Place a bypass capacitor from this pin to GND.", 9 EP (power) "Ground. This pin must be soldered to PCB."

## LT3494EDDB#TRM
designator U?
Micropower Low Noise Boost Converter with Output Disconnect, 8-pin SON (DDB-8), -40 to 85 degC, Mini Tape and Reel; Manufacturer: Linear Technology; PartNumber: LT3494EDDB#TRM; Number of Outputs: 1; PackageReference: DDB-8; PackageDescription: 8-Pin Plastic DFN, Body 3 x 2 mm, Pitch 0.5 mm; RoHS: FALSE
footprint LT-DDB-8_V (SON, 8-Leads, Body 3x2mm, Pitch 0.5mm, Thermal Pad 2.2x0.61mm)
pins: 1 SW "Switch Pin. This is the collector of the internal NPN power switch. Minimize the metal trace area connected to this pin to minimize EMI.", 2 GND (power) "Ground. Tie directly to local ground plane.", 3 VCC (power) "Input Supply Pin. Must be locally bypassed.", 4 CTRL (in) "Dimming Pin. If not used, tie CTRL to 1.5V or higher. If in use, drive CTRL below 1.225V to override the internal reference. See Applications Information for more information.", 5 ~{SHDN} (in) "Shutdown Pin. Tie to 1.5V or more to enable device. Ground to shut down.", 6 FB (in) "Feedback Pin. Reference voltage is 1.225V. There is an internal 182k resistor from the FB pin to GND. To achieve the desired output voltage, choose R1 according to the following formula: R1=182 x (VOUT(MAX)/1.225-1) kohm", 7 VOUT (power) "Drain of Output Disconnect PMOS. Place a bypass capacitor from this pin to GND. See Applications Information.", 8 CAP "This is the cathode of the internal Schottky diode. Place a bypass capacitor from this pin to GND.", 9 EP (power) "Ground. This pin must be soldered to PCB."

## LT3494EDDB#TRMPBF
designator U?
Micropower Low Noise Boost Converter with Output Disconnect, 8-pin SON (DDB-8), -40 to 85 degC, Pb-Free, Mini Tape and Reel; Manufacturer: Linear Technology; PartNumber: LT3494EDDB#TRMPBF; Number of Outputs: 1; PackageReference: DDB-8; PackageDescription: 8-Pin Plastic DFN, Body 3 x 2 mm, Pitch 0.5 mm; Supplier 1: Digi-Key; Supplier Part Number 1: LT3494EDDB#TRMPBFTR-ND; RoHS: TRUE
footprint LT-DDB-8_V (SON, 8-Leads, Body 3x2mm, Pitch 0.5mm, Thermal Pad 2.2x0.61mm)
pins: 1 SW "Switch Pin. This is the collector of the internal NPN power switch. Minimize the metal trace area connected to this pin to minimize EMI.", 2 GND (power) "Ground. Tie directly to local ground plane.", 3 VCC (power) "Input Supply Pin. Must be locally bypassed.", 4 CTRL (in) "Dimming Pin. If not used, tie CTRL to 1.5V or higher. If in use, drive CTRL below 1.225V to override the internal reference. See Applications Information for more information.", 5 ~{SHDN} (in) "Shutdown Pin. Tie to 1.5V or more to enable device. Ground to shut down.", 6 FB (in) "Feedback Pin. Reference voltage is 1.225V. There is an internal 182k resistor from the FB pin to GND. To achieve the desired output voltage, choose R1 according to the following formula: R1=182 x (VOUT(MAX)/1.225-1) kohm", 7 VOUT (power) "Drain of Output Disconnect PMOS. Place a bypass capacitor from this pin to GND. See Applications Information.", 8 CAP "This is the cathode of the internal Schottky diode. Place a bypass capacitor from this pin to GND.", 9 EP (power) "Ground. This pin must be soldered to PCB."

## LT3494EDDB#TRPBF
designator U?
Micropower Low Noise Boost Converter with Output Disconnect, 8-pin SON (DDB-8), -40 to 85 degC, Pb-Free, Tape and Reel; Manufacturer: Linear Technology; PartNumber: LT3494EDDB#TRPBF; Number of Outputs: 1; PackageReference: DDB-8; PackageDescription: 8-Pin Plastic DFN, Body 3 x 2 mm, Pitch 0.5 mm; Supplier 1: Digi-Key; Supplier Part Number 1: LT3494EDDB#TRPBF-ND; RoHS: TRUE
footprint LT-DDB-8_V (SON, 8-Leads, Body 3x2mm, Pitch 0.5mm, Thermal Pad 2.2x0.61mm)
pins: 1 SW "Switch Pin. This is the collector of the internal NPN power switch. Minimize the metal trace area connected to this pin to minimize EMI.", 2 GND (power) "Ground. Tie directly to local ground plane.", 3 VCC (power) "Input Supply Pin. Must be locally bypassed.", 4 CTRL (in) "Dimming Pin. If not used, tie CTRL to 1.5V or higher. If in use, drive CTRL below 1.225V to override the internal reference. See Applications Information for more information.", 5 ~{SHDN} (in) "Shutdown Pin. Tie to 1.5V or more to enable device. Ground to shut down.", 6 FB (in) "Feedback Pin. Reference voltage is 1.225V. There is an internal 182k resistor from the FB pin to GND. To achieve the desired output voltage, choose R1 according to the following formula: R1=182 x (VOUT(MAX)/1.225-1) kohm", 7 VOUT (power) "Drain of Output Disconnect PMOS. Place a bypass capacitor from this pin to GND. See Applications Information.", 8 CAP "This is the cathode of the internal Schottky diode. Place a bypass capacitor from this pin to GND.", 9 EP (power) "Ground. This pin must be soldered to PCB."

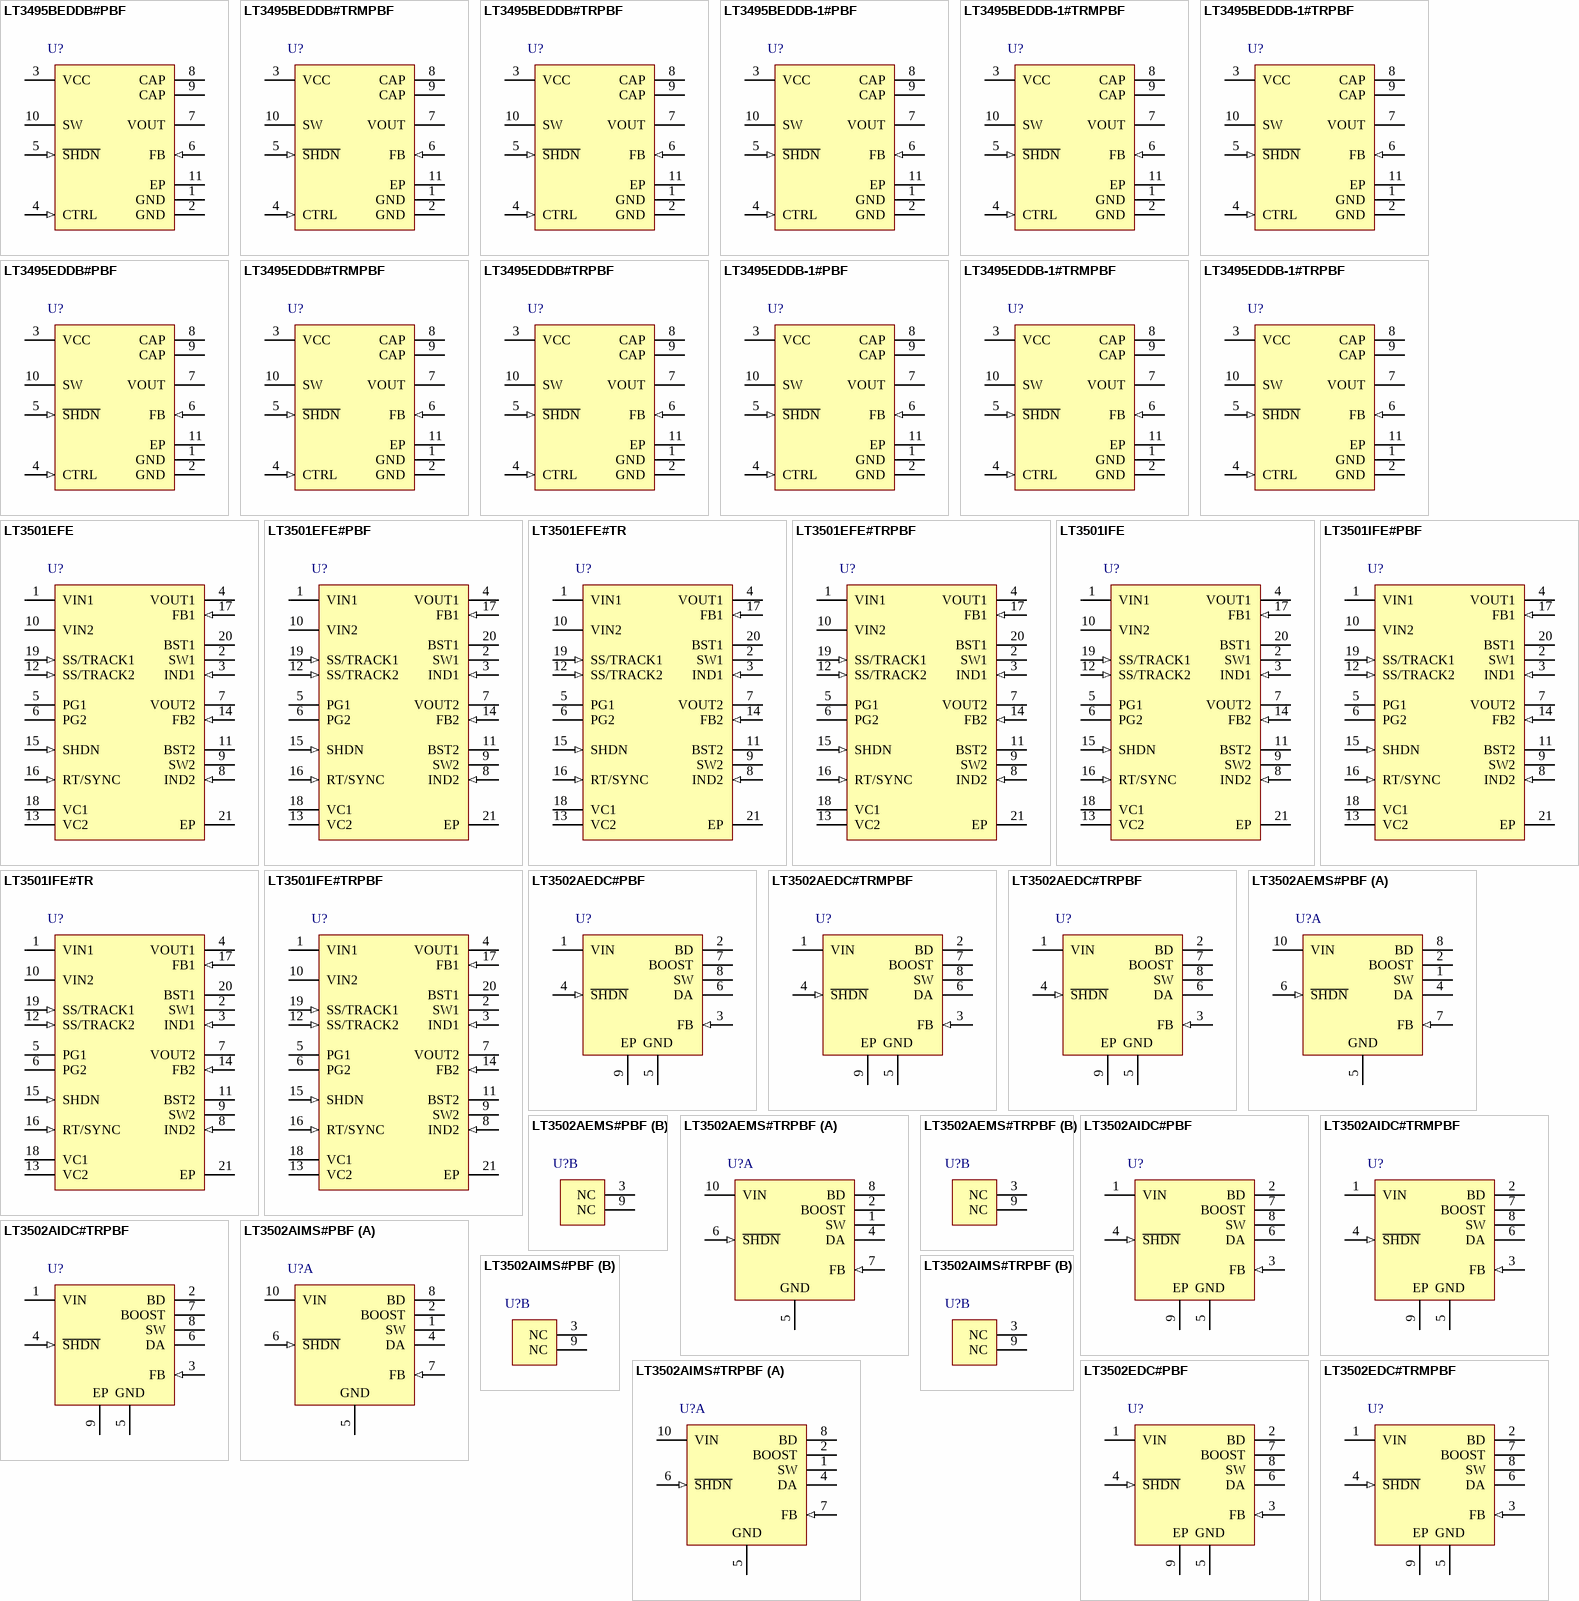
[diagram p43: symbols LT3495BEDDB#PBF to LT3502EDC#TRMPBF]

## LT3495BEDDB#PBF
designator U?
650 mA / 350 mA Micropower Low Noise Boost Converter with Output Disconnect, 10-pin SON (DDB10), -40 to 125 degC, Pb-Free; Manufacturer: Linear Technology; PartNumber: LT3495BEDDB#PBF; Number of Outputs: 1; PackageReference: DDB10; PackageDescription: 10-Pin Plastic DFN, Body 3 x 2 mm, Pitch 0.5 mm; RoHS: TRUE
footprint LT-DDB-10_V (SON, 10-Leads, Body 3x2mm, Pitch 0.5mm, Thermal Pad 2.39x0.64mm)
pins: 1 GND (power) "Ground. Tie directly to local ground plane.", 2 GND (power) "Ground. Tie directly to local ground plane.", 3 VCC (power) "Input Supply Pin. Must be locally bypassed.", 4 CTRL (in) "Dimming Pin. If not used, tie CTRL to 1.5V or higher. If in use, drive CTRL below 1.235V to override the internal reference. See Applications section for more information.", 5 ~{SHDN} (in) "Shutdown Pin. Tie to 1.5V or more to enable chip. Ground to shut down.", 6 FB (in) "Feedback Pin. Minimize the metal trace area to this pin to minimize noise. Reference voltage is 1.235V. There is an internal 76k resistor from the FB pin to GND.", 7 VOUT (power) "Drain of Output Disconnect PMOS. Place a bypass capacitor from this pin to GND. See Applications information.", 8 CAP "Source of Output Disconnect PMOS. Place a bypass capacitor from this pin to GND.", 9 CAP "Source of Output Disconnect PMOS. Place a bypass capacitor from this pin to GND.", 10 SW "Switch Pin. This is the collector of the internal NPN power switch. Minimize the metal trace area connected to this pin to minimize EMI.", 11 EP (power) "Ground. This pin must be soldered to PCB."